# EAGLE library part HEADER-100 (library everykey)
100 pin connectors
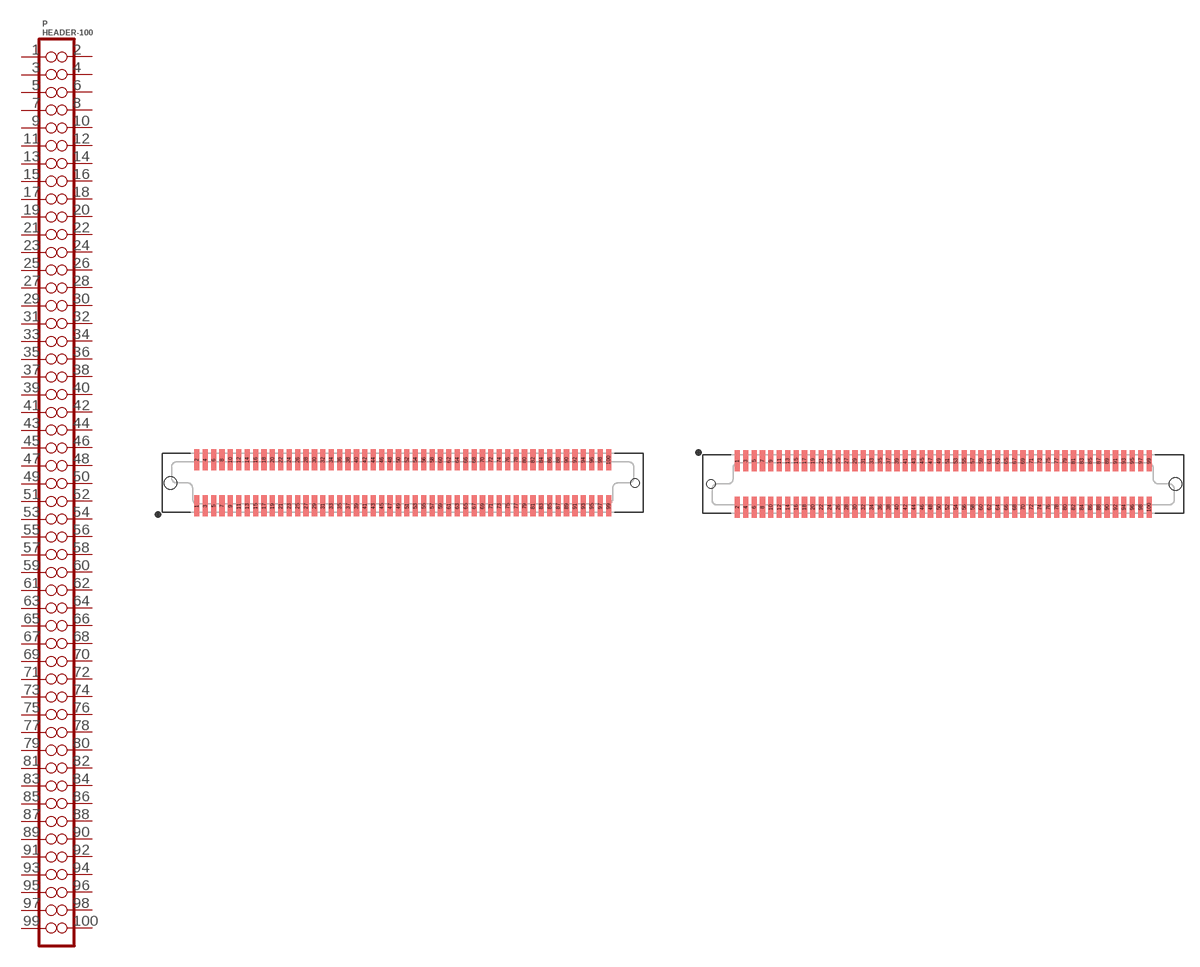
[diagram p94: symbol with the pads of TE_5177983-4; footprints TE_5177983-4, TE_5177984-4]

Designator prefix P

## HEADER-100TE-5177983-RECEPTACLE  [TE_5177983-4]
1  1  pas
2  2  pas
3  3  pas
4  4  pas
5  5  pas
6  6  pas
7  7  pas
8  8  pas
9  9  pas
10  10  pas
11  11  pas
12  12  pas
13  13  pas
14  14  pas
15  15  pas
16  16  pas
17  17  pas
18  18  pas
19  19  pas
20  20  pas
21  21  pas
22  22  pas
23  23  pas
24  24  pas
25  25  pas
26  26  pas
27  27  pas
28  28  pas
29  29  pas
30  30  pas
31  31  pas
32  32  pas
33  33  pas
34  34  pas
35  35  pas
36  36  pas
37  37  pas
38  38  pas
39  39  pas
40  40  pas
41  41  pas
42  42  pas
43  43  pas
44  44  pas
45  45  pas
46  46  pas
47  47  pas
48  48  pas
49  49  pas
50  50  pas
51  51  pas
52  52  pas
53  53  pas
54  54  pas
55  55  pas
56  56  pas
57  57  pas
58  58  pas
59  59  pas
60  60  pas
61  61  pas
62  62  pas
63  63  pas
64  64  pas
65  65  pas
66  66  pas
67  67  pas
68  68  pas
69  69  pas
70  70  pas
71  71  pas
72  72  pas
73  73  pas
74  74  pas
75  75  pas
76  76  pas
77  77  pas
78  78  pas
79  79  pas
80  80  pas
81  81  pas
82  82  pas
83  83  pas
84  84  pas
85  85  pas
86  86  pas
87  87  pas
88  88  pas
89  89  pas
90  90  pas
91  91  pas
92  92  pas
93  93  pas
94  94  pas
95  95  pas
96  96  pas
97  97  pas
98  98  pas
99  99  pas
100  100  pas

## HEADER-100TE-5177984-PLUG  [TE_5177984-4]
Pads as for TE_5177983-4

## Footprint TE_5177983-4 (pad centres in mm)
TE mezzanine receptacle, 2 rows, 0.8mm pitch, 100 pins
smd 0.49 x 2: 1 -19.6,-2.2; 2 -19.6,2.2; 3 -18.8,-2.2; 4 -18.8,2.2; 5 -18,-2.2; 6 -18,2.2; 7 -17.2,-2.2; 8 -17.2,2.2; 9 -16.4,-2.2; 10 -16.4,2.2; 11 -15.6,-2.2; 12 -15.6,2.2; 13 -14.8,-2.2; 14 -14.8,2.2; 15 -14,-2.2; 16 -14,2.2; 17 -13.2,-2.2; 18 -13.2,2.2; 19 -12.4,-2.2; 20 -12.4,2.2; 21 -11.6,-2.2; 22 -11.6,2.2; 23 -10.8,-2.2; 24 -10.8,2.2; 25 -10,-2.2; 26 -10,2.2; 27 -9.2,-2.2; 28 -9.2,2.2; 29 -8.4,-2.2; 30 -8.4,2.2; 31 -7.6,-2.2; 32 -7.6,2.2; 33 -6.8,-2.2; 34 -6.8,2.2; 35 -6,-2.2; 36 -6,2.2; 37 -5.2,-2.2; 38 -5.2,2.2; 39 -4.4,-2.2; 40 -4.4,2.2; 41 -3.6,-2.2; 42 -3.6,2.2; 43 -2.8,-2.2; 44 -2.8,2.2; 45 -2,-2.2; 46 -2,2.2; 47 -1.2,-2.2; 48 -1.2,2.2; 49 -0.4,-2.2; 50 -0.4,2.2; 51 0.4,-2.2; 52 0.4,2.2; 53 1.2,-2.2; 54 1.2,2.2; 55 2,-2.2; 56 2,2.2; 57 2.8,-2.2; 58 2.8,2.2; 59 3.6,-2.2; 60 3.6,2.2; 61 4.4,-2.2; 62 4.4,2.2; 63 5.2,-2.2; 64 5.2,2.2; 65 6,-2.2; 66 6,2.2; 67 6.8,-2.2; 68 6.8,2.2; 69 7.6,-2.2; 70 7.6,2.2; 71 8.4,-2.2; 72 8.4,2.2; 73 9.2,-2.2; 74 9.2,2.2; 75 10,-2.2; 76 10,2.2; 77 10.8,-2.2; 78 10.8,2.2; 79 11.6,-2.2; 80 11.6,2.2; 81 12.4,-2.2; 82 12.4,2.2; 83 13.2,-2.2; 84 13.2,2.2; 85 14,-2.2; 86 14,2.2; 87 14.8,-2.2; 88 14.8,2.2; 89 15.6,-2.2; 90 15.6,2.2; 91 16.4,-2.2; 92 16.4,2.2; 93 17.2,-2.2; 94 17.2,2.2; 95 18,-2.2; 96 18,2.2; 97 18.8,-2.2; 98 18.8,2.2; 99 19.6,-2.2; 100 19.6,2.2
hole 1.2 at -22.1,0
hole 0.8 at 22.1,0

## Footprint TE_5177984-4 (pad centres in mm)
TE mezzanine plug, 2 rows, 0.8mm pitch, 100 pins
smd 0.49 x 2: 1 -19.6,2.2; 2 -19.6,-2.2; 3 -18.8,2.2; 4 -18.8,-2.2; 5 -18,2.2; 6 -18,-2.2; 7 -17.2,2.2; 8 -17.2,-2.2; 9 -16.4,2.2; 10 -16.4,-2.2; 11 -15.6,2.2; 12 -15.6,-2.2; 13 -14.8,2.2; 14 -14.8,-2.2; 15 -14,2.2; 16 -14,-2.2; 17 -13.2,2.2; 18 -13.2,-2.2; 19 -12.4,2.2; 20 -12.4,-2.2; 21 -11.6,2.2; 22 -11.6,-2.2; 23 -10.8,2.2; 24 -10.8,-2.2; 25 -10,2.2; 26 -10,-2.2; 27 -9.2,2.2; 28 -9.2,-2.2; 29 -8.4,2.2; 30 -8.4,-2.2; 31 -7.6,2.2; 32 -7.6,-2.2; 33 -6.8,2.2; 34 -6.8,-2.2; 35 -6,2.2; 36 -6,-2.2; 37 -5.2,2.2; 38 -5.2,-2.2; 39 -4.4,2.2; 40 -4.4,-2.2; 41 -3.6,2.2; 42 -3.6,-2.2; 43 -2.8,2.2; 44 -2.8,-2.2; 45 -2,2.2; 46 -2,-2.2; 47 -1.2,2.2; 48 -1.2,-2.2; 49 -0.4,2.2; 50 -0.4,-2.2; 51 0.4,2.2; 52 0.4,-2.2; 53 1.2,2.2; 54 1.2,-2.2; 55 2,2.2; 56 2,-2.2; 57 2.8,2.2; 58 2.8,-2.2; 59 3.6,2.2; 60 3.6,-2.2; 61 4.4,2.2; 62 4.4,-2.2; 63 5.2,2.2; 64 5.2,-2.2; 65 6,2.2; 66 6,-2.2; 67 6.8,2.2; 68 6.8,-2.2; 69 7.6,2.2; 70 7.6,-2.2; 71 8.4,2.2; 72 8.4,-2.2; 73 9.2,2.2; 74 9.2,-2.2; 75 10,2.2; 76 10,-2.2; 77 10.8,2.2; 78 10.8,-2.2; 79 11.6,2.2; 80 11.6,-2.2; 81 12.4,2.2; 82 12.4,-2.2; 83 13.2,2.2; 84 13.2,-2.2; 85 14,2.2; 86 14,-2.2; 87 14.8,2.2; 88 14.8,-2.2; 89 15.6,2.2; 90 15.6,-2.2; 91 16.4,2.2; 92 16.4,-2.2; 93 17.2,2.2; 94 17.2,-2.2; 95 18,2.2; 96 18,-2.2; 97 18.8,2.2; 98 18.8,-2.2; 99 19.6,2.2; 100 19.6,-2.2
hole 0.8 at -22.1,0
hole 1.2 at 22.1,0